# Altium footprint library PcbLib1.PcbLib: 32 footprints (part 2 of 2)
Each footprint in its own frame and in the unit in brackets; x right, y up, seen from the top. Pads: shape width x height; smd on the part's side, far side on the other; paste and mask are expansions set on the pad; w line width, h text height; cw(c..) or ccw(c..) is an arc to the next point about the centre after c.
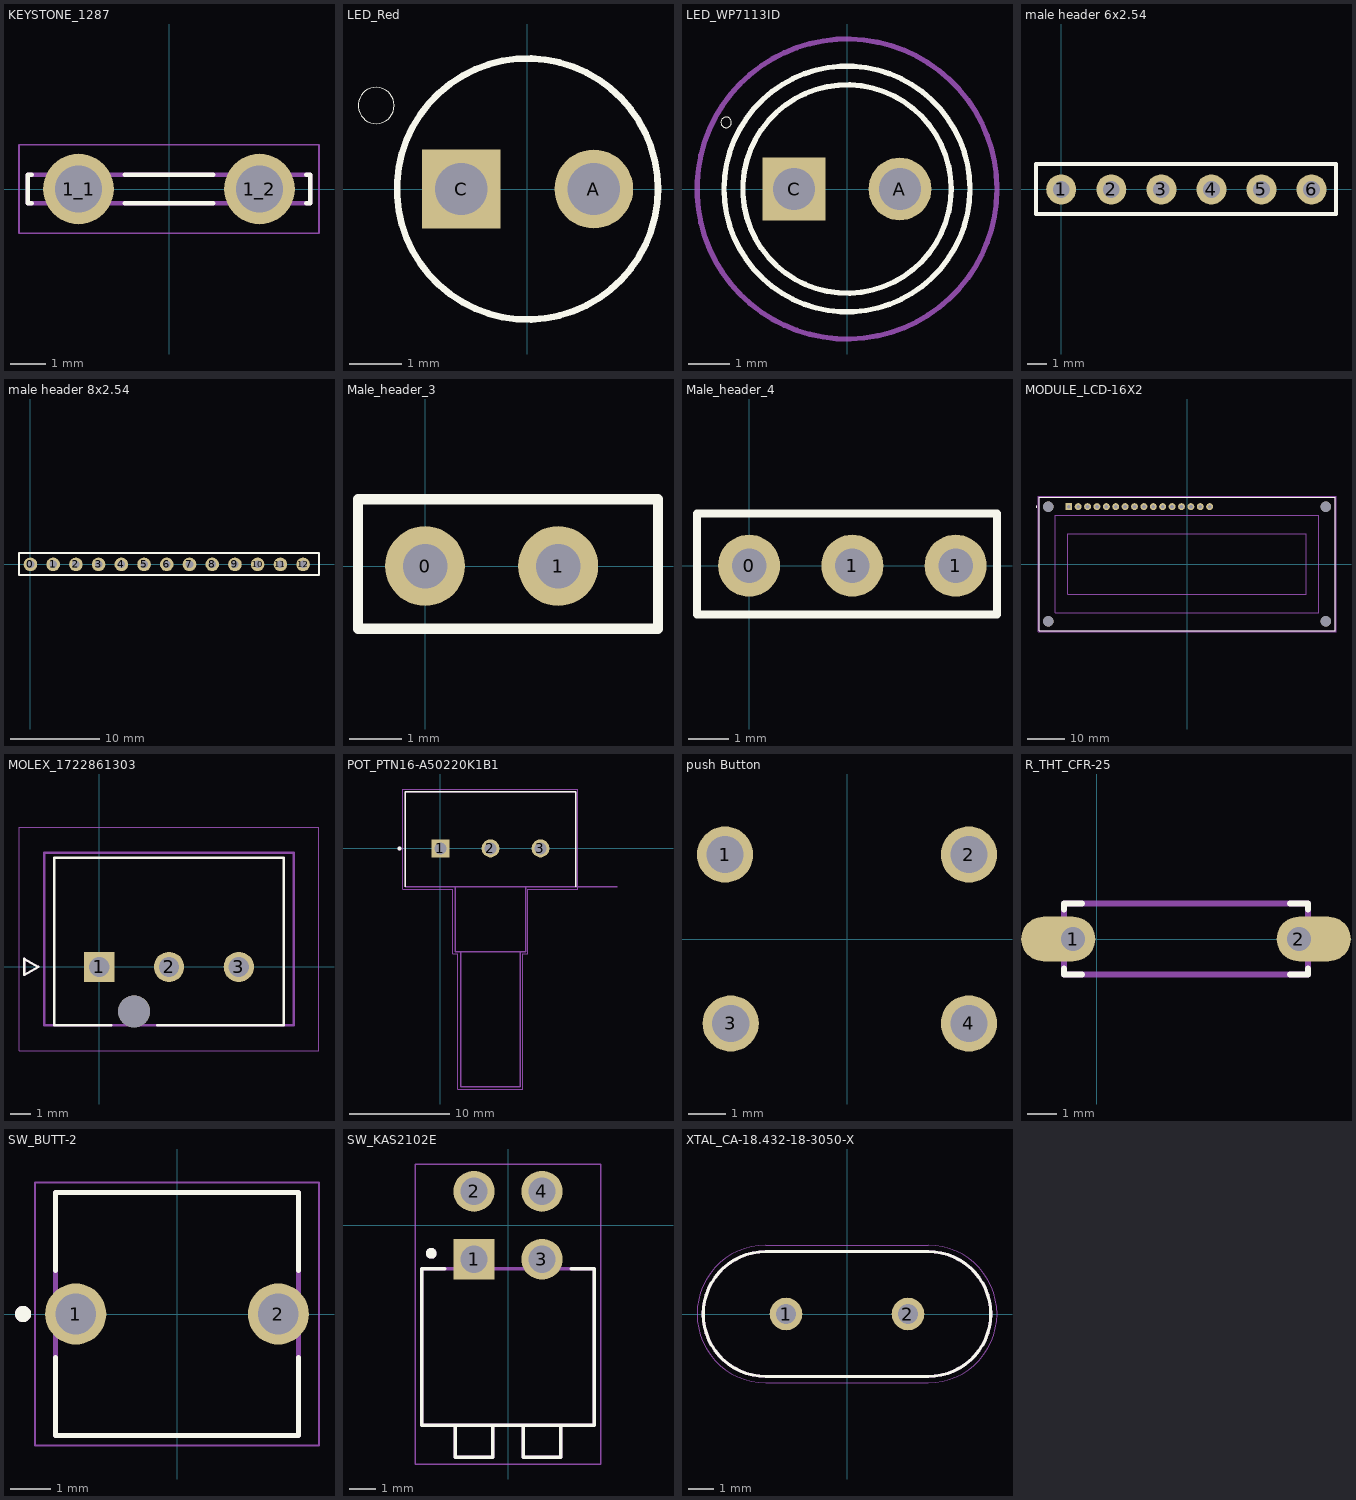
[diagram p1: the footprints below, top view; thin cyan lines are the x and y axes]

## KEYSTONE_1287 [mm]
height 14.02
pads (2):
  round 1.98 hole 1.32: 1_1(-2.54,0) 1_2(2.54,0)
Top Overlay:
  lines w0.127: -3.85,-0.405 -3.96,-0.405 -3.96,0.405 -3.85,0.405 ; -1.236,-0.405 1.236,-0.405 ; -1.236,0.405 1.236,0.405 ; 3.85,-0.405 3.96,-0.405 3.96,0.405 3.85,0.405
Mechanical 13:
  lines w0.127: -3.96,-0.405 3.96,-0.405 3.96,0.405 -3.96,0.405 -3.96,-0.405
Mechanical 15:
  lines w0.05: -4.21,-1.24 4.21,-1.24 4.21,1.24 -4.21,1.24 -4.21,-1.24
3D body "step_temp.STEP": height 14.02, standoff 0, extent -3.962,-0.813 3.962,0

## LED_Red [mm]
pads (2):
  round 1.508 hole 1: A(1.27,0)
  rect 1.508x1.508 / inner round 1.508 / far side rect 1.508x1.508 hole 1: C(-1.27,0)
Top Overlay:
  circle w0: c-2.9,1.6 r0.347
  circle w0.127: c0,0 r2.5
3D body "step_temp.STEP": height 9.6, standoff -26, extent -2.5,-2.95 2.95,2.95

## LED_WP7113ID [mm]
pads (2):
  round 1.508 hole 1: A(1.27,0)
  rect 1.508x1.508 / inner round 1.508 / far side rect 1.508x1.508 hole 1: C(-1.27,0)
Top Overlay:
  circle w0: c-2.9,1.6 r0.127
  circle w0.127: c0,0 r2.5
  circle w0.127: c0,0 r2.95
Mechanical 15:
  circle w0.127: c0,0 r3.6
3D body "step_temp.STEP": height 9.6, standoff -26, extent -2.5,-2.95 2.95,2.95

## male header 6x2.54 [mil]
pads (6):
  round 60 hole 33.46: 1(0,0) 2(100,0) 3(200,0) 4(300,0) 5(400,0) 6(500,0)
Top Overlay:
  lines w7.87: -50.39,50 -50.39,-48.82 548.82,-48.82 548.82,50.39 -50,50.39
3D body "6x_Male_Pin_2.54_mm.STEP": height 348.67, standoff -88.34, extent -51.57,-48.43 548.43,46.06

## male header 8x2.54 [mil]
pads (13):
  round 60 hole 33.46: 0(0,0) 1(100,0) 2(200,0) 3(300,0) 4(400,0) 5(500,0) 6(600,0) 7(700,0) 8(800,0) 9(900,0) 10(1000,0) 11(1100,0) 12(1200,0)
Top Overlay:
  lines w7.87: -50.39,-47.24 1270,-47.24 1270,50.39 -50.39,50.39 -50.39,-47.24
3D body "8pins.step": height 348.03, standoff -106.3, extent -324.21,-49.21 474.21,49.21
3D body "8pins.step": height 348.03, standoff -106.3, extent 450.79,-53.43 1249.21,45

## Male_header_3 [mil]
pads (2):
  round 60 hole 33.46: 0(0,0) 1(100,0)
Top Overlay:
  lines w7.87: -50.39,-47.24 175,-47.24 175,50.39 -50.39,50.39 -50.39,-47.24

## Male_header_4 [mil]
pads (3):
  round 60 hole 33.46: 0(0,0) 1(100,0) 1(200,0)
Top Overlay:
  lines w7.87: -50.39,-47.24 -50.39,50.39 240,50.39 240,-47.24 -50.39,-47.24

## MODULE_LCD-16X2 [mm]
height 14
pads (20):
  rect 1.88x1.88 / inner round 1.88 / far side rect 1.88x1.88 hole 1.016: 1(-32,15.5)
  round 1.88 hole 1.016: 2(-29.46,15.5) 3(-26.92,15.5) 4(-24.38,15.5) 5(-21.84,15.5) 6(-19.3,15.5) 7(-16.76,15.5) 8(-14.22,15.5) 9(-11.68,15.5) 10(-9.14,15.5) 11(-6.6,15.5) 12(-4.06,15.5) 13(-1.52,15.5) 14(1.02,15.5) 15(3.56,15.5) 16(6.1,15.5)
  round 2.8 hole 2.8 unplated: ""(-37.5,-15.5) ""(-37.5,15.5) ""(37.5,-15.5) ""(37.5,15.5)
Top Overlay:
  circle w0.2: c-40.75,15.5 r0.1
  lines w0.127: -40,-18 40,-18 40,18 -40,18 -40,-18
Mechanical 13:
  circle w0.2: c-40.75,15.5 r0.1
  lines w0.127: -40,-18 40,-18 40,18 -40,18 -40,-18 ; -35.65,-13.15 35.65,-13.15 35.65,13.15 -35.65,13.15 -35.65,-13.15 ; -32.25,-8.2 32.25,-8.2 32.25,8.2 -32.25,8.2 -32.25,-8.2
Mechanical 15:
  lines w0.05: -40.25,-18.25 -40.25,18.25 40.25,18.25 40.25,-18.25 -40.25,-18.25
3D body "step_temp.STEP": height 10.2, standoff -3, extent -40,-18 40,18

## MOLEX_1722861303 [mm]
height 14
pads (4):
  rect 1.52x1.52 / inner round 1.52 / far side rect 1.52x1.52 hole 1.02 mask+0.076: 1(0,0)
  round 1.52 hole 1.02 mask+0.076: 2(3.5,0) 3(7,0)
  round 1.6 hole 1.6 unplated mask+0.076: ""(1.75,-2.23)
Top Overlay:
  lines w0.127: 0.6,-2.93 -2.25,-2.93 -2.25,5.48 9.25,5.48 9.25,-2.93 2.9,-2.93 ; -3.75,-0.4 -3.75,0.4 -3.05,0 -3.75,-0.4
Mechanical 13:
  lines w0.127: -3.75,-0.4 -3.75,0.4 -3.05,0 -3.75,-0.4 ; -2.75,-2.93 9.75,-2.93 9.75,5.73 -2.75,5.73 -2.75,-2.93
Mechanical 15:
  lines w0.05: -4.02,-4.2 -4.02,7 11.02,7 11.02,-4.2 -4.02,-4.2

## PCBComponent_1 [mil]

## POT_PTN16-A50220K1B1 [mm]
height 21.5
pads (3):
  rect 1.8x1.8 / inner round 1.8 / far side rect 1.8x1.8 hole 1.2: 1(0,0)
  round 1.8 hole 1.2: 2(5,0) 3(10,0)
Top Overlay:
  circle w0.2: c-4.1,0 r0.1
  lines w0.127: -3.5,-3.81 -3.5,5.69 13.5,5.69 13.5,-3.81
Mechanical 13:
  circle w0.2: c-4.1,0 r0.1
  lines w0.127: 17.7,-3.81 13.5,-3.81 ; 1.5,-3.81 -3.5,-3.81 -3.5,5.69 13.5,5.69 13.5,-3.81 ; 1.5,-3.81 8.5,-3.81 ; 1.5,-3.81 1.5,-10.31 2,-10.31 ; 2,-10.31 8,-10.31 ; 2,-10.31 2,-23.81 8,-23.81 8,-10.31 ; 8,-10.31 8.5,-10.31 8.5,-3.81 ; 8.5,-3.81 13.5,-3.81
  text "PCB Edge" at 14.25,-3.5 h0.9
Mechanical 15:
  lines w0.05: -3.75,-4.06 -3.75,5.94 13.75,5.94 13.75,-4.06 8.75,-4.06 8.75,-10.56 8.25,-10.56 8.25,-24.06 1.75,-24.06 1.75,-10.56 1.25,-10.56 1.25,-4.06 -3.75,-4.06
3D body "step_temp.STEP": height 8.5, standoff -15.5, extent -7.3,-8.5 22.2,8.5

## push Button [mm]
pads (4):
  round 1.498 hole 0.99: 1(-3.25,2.25) 2(3.25,2.25) 3(-3.1,-2.25) 4(3.25,-2.25)
3D body "step_temp.STEP": height 17.01, standoff -3.51, extent -3.898,-2.995 3.9,2.995

## R_THT_CFR-25 [mm]
pads (2):
  oval 2.5x1.5 hole 0.8 copper offset -0.5,0: 1(-0.8,0)
  oval 2.5x1.5 hole 0.8 copper offset 0.5,0: 2(6.8,0)
Top Overlay:
  lines w0.2: -1.1,-1 -1.1,-1.2 -0.5,-1.2 ; -1.1,1 -1.1,1.2 -0.5,1.2 ; 6.5,-1.2 7.1,-1.2 7.1,-1 ; 6.5,1.2 7.1,1.2 7.1,1
Board Shape:
  lines w0.2: -1.1,-1.2 7.1,-1.2 7.1,1.2 -1.1,1.2 -1.1,-1.2
  text ".Designator" at 0.7,-0.4 h1
3D body: height 1.71, standoff -0.42, extent 1.5,-1.075 1.9,1.061
3D body: height 1.71, standoff -0.42, extent 2.3,-1.075 2.7,1.061
3D body: height 1.71, standoff -0.42, extent 3.1,-1.075 3.5,1.061
3D body "User Library-CFR-25 CFR50S (300mils)-2.STEP": height 1.9, standoff -3.38, extent -1.085,-1.2 7.085,1.2
3D body: height 1.71, standoff -0.42, extent 4.1,-1.075 4.5,1.061

## SW_BUTT-2 [mm]
height 9.5
pads (2):
  round 1.508 hole 1 mask+0.102: 1(-2.5,0) 2(2.5,0)
Top Overlay:
  circle w0.2: c-3.8,0 r0.1
  lines w0.127: -3,-1.075 -3,-3 3,-3 3,-1.075 ; -3,1.075 -3,3 3,3 3,1.075
Mechanical 13:
  circle w0.2: c-3.8,0 r0.1
  lines w0.127: -3,-3 3,-3 3,3 -3,3 -3,-3
Mechanical 15:
  lines w0.05: -3.504,-3.25 -3.504,3.25 3.504,3.25 3.504,-3.25 -3.504,-3.25
3D body "step_temp.STEP": height 5.1, standoff -4, extent -3,-3 3,3

## SW_KAS2102E [mm]
height 10.3
pads (4):
  rect 1.53x1.53 / inner round 1.53 / far side rect 1.53x1.53 hole 1.02 mask+0.102: 1(-1.27,-1.27)
  round 1.53 hole 1.02 mask+0.102: 2(-1.27,1.27) 3(1.27,-1.27) 4(1.27,1.27)
Top Overlay:
  circle w0.2: c-2.87,-1.049 r0.1
  lines w0.127: -2.36,-1.62 -3.22,-1.62 -3.22,-7.47 3.22,-7.47 3.22,-1.62 2.36,-1.62 ; -1.97,-7.47 -1.97,-8.67 -0.57,-8.67 -0.57,-7.47 ; 0.57,-7.47 0.57,-8.67 1.97,-8.67 1.97,-7.47
Mechanical 13:
  circle w0.2: c-2.87,-1.049 r0.1
  lines w0.127: -1.97,-7.47 -0.57,-7.47 ; -1.97,-7.47 -3.22,-7.47 -3.22,-1.62 3.22,-1.62 3.22,-7.47 1.97,-7.47 ; -1.97,-7.47 -1.97,-8.67 -0.57,-8.67 -0.57,-7.47 ; -0.57,-7.47 0.57,-7.47 ; 0.57,-7.47 1.97,-7.47 ; 0.57,-7.47 0.57,-8.67 1.97,-8.67 1.97,-7.47
Mechanical 15:
  lines w0.05: -3.47,-8.92 3.47,-8.92 3.47,2.29 -3.47,2.29 -3.47,-8.92
3D body "step_temp.STEP": height 4.95, standoff -7.85, extent -3.22,-4.125 3.22,5.91

## XTAL_CA-18.432-18-3050-X [mm]
height 3.7
pads (2):
  round 1.308 hole 0.8 mask+0.102: 1(-2.44,0) 2(2.44,0)
Top Overlay:
  lines w0.127: -5.75,0 ccw(c-3.25,0) -3.25,-2.5 3.25,-2.5 ccw(c3.25,0) 5.75,0 ccw(c3.25,0) 3.25,2.5 -3.25,2.5 ccw(c-3.25,0) -5.75,0
Mechanical 13:
  lines w0.127: -5.75,0 ccw(c-3.25,0) -3.25,-2.5 3.25,-2.5 ccw(c3.25,0) 5.75,0 ccw(c3.25,0) 3.25,2.5 -3.25,2.5 ccw(c-3.25,0) -5.75,0
Mechanical 15:
  lines w0.05: -6,0 ccw(c-3.25,0) -3.25,-2.75 3.25,-2.75 ccw(c3.25,0) 6,0 ccw(c3.25,0) 3.25,2.75 -3.25,2.75 ccw(c-3.25,0) -6,0
3D body "step_temp.STEP": height 3.7, standoff -14.2, extent -5.75,-2.5 5.75,2.5